# EAGLE library part SI4455-B1A-FM (library Si4455-B1A-FM)
Transceiver,RF,sub-GHz,OOK/(G)FSK,QFN20 Si4455-B1A-FM, RF Transceiver 283 350 MHz, 425 525 MHz, 850 960 MHz, GFSK, OOK, Triple Band Source: Datasheet <http://docs-europe.electrocomponents.com/webdocs/14f6/0900766b814f6627.pdf>
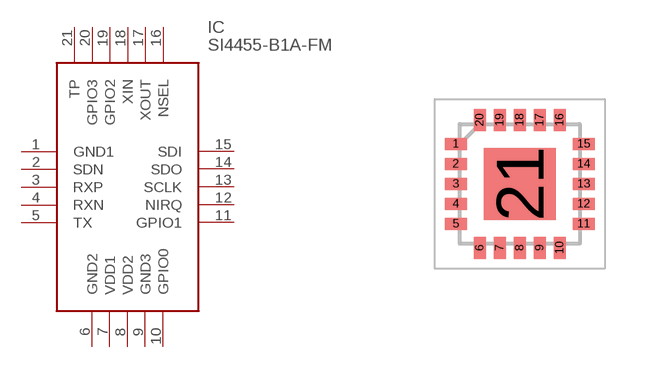
[diagram p0: symbol with the pads of QFN50P300X300X80-21N; footprint QFN50P300X300X80-21N]

Designator prefix IC

## SI4455-B1A-FM (Arrow_Part_Number: Si4455-B1A-FM; Arrow_Price/Stock: https://www.arrow.com/en/products/si4455-b1a-fm/silicon-labs; Description: Transceiver,RF,sub-GHz,OOK/(G)FSK,QFN20 Si4455-B1A-FM, RF Transceiver 283 350 MHz, 425 525 MHz, 850 960 MHz, GFSK, OOK, Triple Band; Height: 0.8mm; Manufacturer_Name: Silicon Labs; Manufacturer_Part_Number: Si4455-B1A-FM; RS_Part_Number: 7698673; RS_Price/Stock: http://uk.rs-online.com/web/p/products/7698673)  [QFN50P300X300X80-21N]
1  GND1
2  SDN
3  RXP
4  RXN
5  TX
6  GND2
7  VDD1
8  VDD2
9  GND3
10  GPIO0
11  GPIO1
12  NIRQ
13  SCLK
14  SDO
15  SDI
16  NSEL
17  XOUT
18  XIN
19  GPIO2
20  GPIO3
21  TP

## Footprint QFN50P300X300X80-21N (pad centres in mm)
20-Pin QFN
smd 0.55 x 0.3: 1 -1.6,1; 2 -1.6,0.5; 3 -1.6,0; 4 -1.6,-0.5; 5 -1.6,-1; 11 1.6,-1; 12 1.6,-0.5; 13 1.6,0; 14 1.6,0.5; 15 1.6,1
smd 0.3 x 0.55: 6 -1,-1.6; 7 -0.5,-1.6; 8 0,-1.6; 9 0.5,-1.6; 10 1,-1.6; 16 1,1.6; 17 0.5,1.6; 18 0,1.6; 19 -0.5,1.6; 20 -1,1.6
smd 1.8 x 1.8: 21 0,0